# EAGLE library part 629105150521 (library WR-USB)
WR-USB Mini/Micro Connectors Characteristics Mini and Micro form factors, ideal for space-constrained designs Pin configuration: 5 pins for USB 2.0 / 10 pins for USB 3.x Designed for high cycle durability UL, TID listing for USB standards Applications Mobile and handheld devices Wearables and portable accessories Embedded systems and IoT modules Details see: www.we-online.com/en/components/products/INPUT_OUTPUT_WR_USB_STANDARD Updated by Ella 2026-07-03 2026 (C) Würth Elektronik
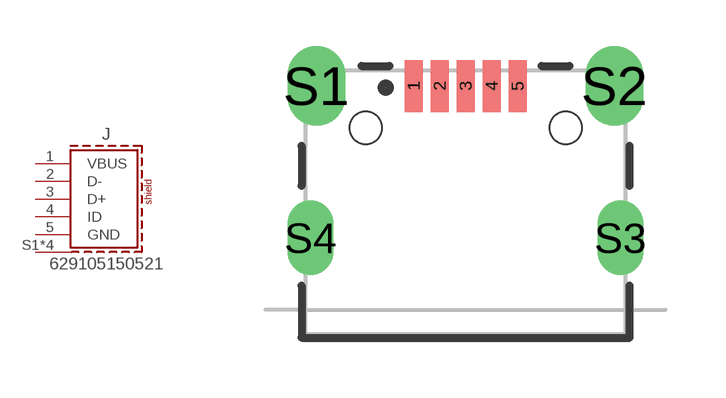
[diagram p31: symbol with the pads of 629105150521; footprint 629105150521]

Designator prefix J

## 629105150521 (APPLICATION: Micro USB 2.0; DATASHEET: https://www.we-online.com/redexpert/spec/629105150521?ae; GERDER: Receptacle; INTERFACE-TYPE: Type B; IR: 3 A; MOUNT: SMT; PACKAGING: Tape and Reel; PART-NUMBER: 629105150521; PINS: 5pcs; TYPE: Horizontal; VALUE: 629105150521; WORKING-VOLTAGE: 30 V (AC))  [629105150521]
1  VBUS  pas
2  D-  pas
3  D+  pas
4  ID  pas
5  GND  pas
S1  SHIELD  pas
S2  SHIELD  pas
S3  SHIELD  pas
S4  SHIELD  pas

## Footprint 629105150521 (pad centres in mm)
WR-USB Mini/Micro Connectors Micro USB 2.0, Type B, Horizontal SMT, 5Pins
smd 0.45 x 1.3: 1 -1.3,2.9; 2 -0.65,2.9; 3 0,2.9; 4 0.65,2.9; 5 1.3,2.9
drill 0.85 pad 1.45 slot 1.4 rotated 90: S1 -3.725,2.9; S2 3.725,2.9
drill 0.55 pad 1.15 slot 1.27 rotated 90: S3 3.875,-0.9; S4 -3.875,-0.9
hole 0.8 at -2.5,1.85
hole 0.8 at 2.5,1.85